# Altium footprint library BR-6.PcbLib: 1 footprints
Each footprint in its own frame and in the unit in brackets; x right, y up, seen from the top. Pads: shape width x height; smd on the part's side, far side on the other; paste and mask are expansions set on the pad; w line width, h text height; cw(c..) or ccw(c..) is an arc to the next point about the centre after c.
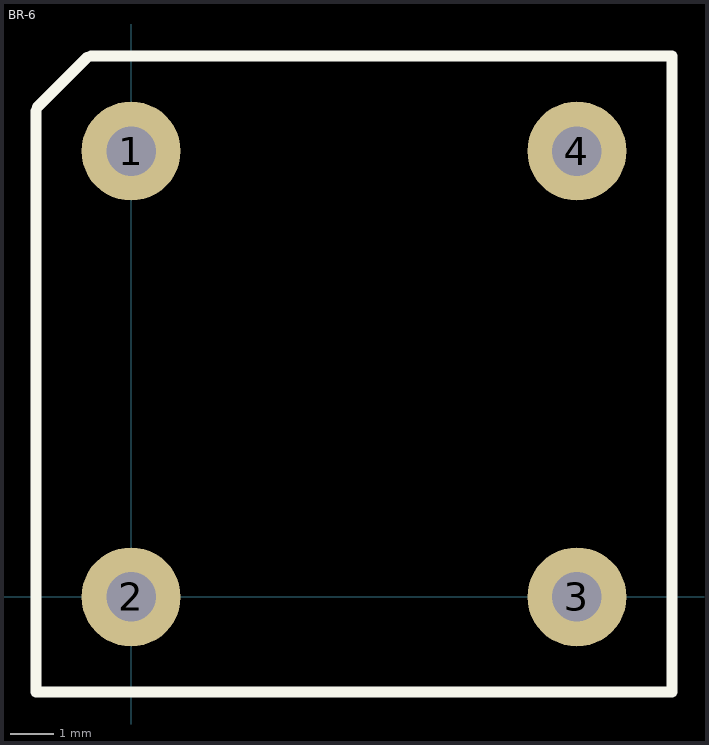
[diagram p0: the footprint, top view; thin cyan lines are the x and y axes]

## BR-6 [mil]
pads (4):
  round 90 hole 45: 1(0,405) 2(0,0) 3(405,0) 4(405,405)
Top Overlay:
  lines w10: -86.5,441.5 -86.5,-86.5 491.5,-86.5 491.5,491.5 -36.5,491.5 ; -85,445 -40,490